# Altium schematic symbol library Term,Header,8 Pin,Top,2.54mm.Schlib: 1 symbol
Pins are listed as number, name and electrical type; pins without a type are passive.

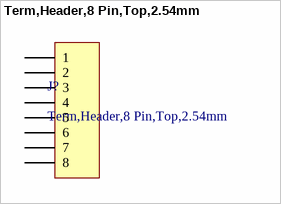
[diagram p0: symbol Term,Header,8 Pin,Top,2.54mm]

## Term,Header,8 Pin,Top,2.54mm
designator J?
CONN HEADER VERT 8POS 2.54MM
pins: 1, 2, 3, 4, 5, 6, 7, 8